# Altium footprint library PcbLib.PcbLib: 46 footprints (part 3 of 3)
Each footprint in its own frame and in the unit in brackets; x right, y up, seen from the top. Pads: shape width x height; smd on the part's side, far side on the other; paste and mask are expansions set on the pad; w line width, h text height; cw(c..) or ccw(c..) is an arc to the next point about the centre after c.
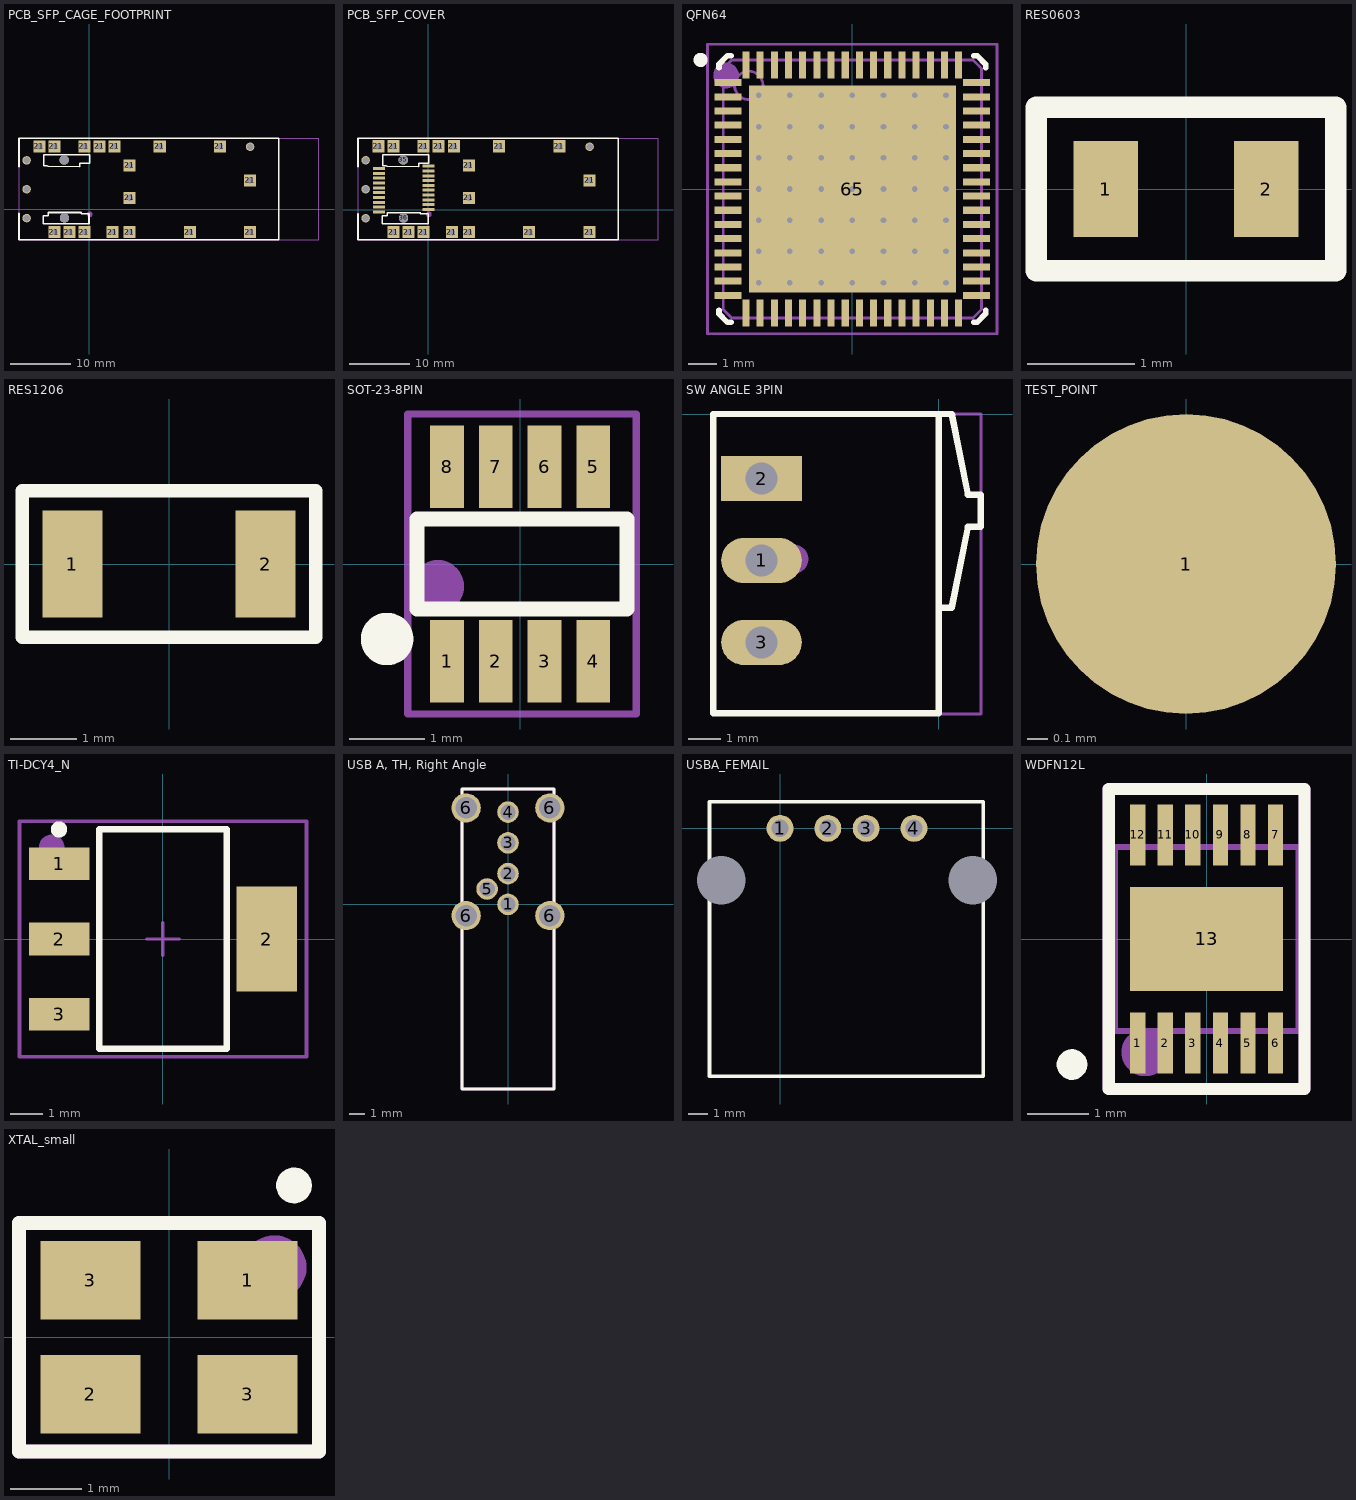
[diagram p2: the footprints below, top view; thin cyan lines are the x and y axes]

## PCB_SFP_CAGE_FOOTPRINT [mm]
pads (23):
  round 1.4 hole 1.067: 21(-10.387,-1.439) 21(-10.387,3.361) 21(-10.387,8.163) 21(26.75,10.425)
  rect 2x2 hole 1.05: 21(-8.279,10.499) 21(-5.764,-3.75) 21(-5.764,10.499) 21(-3.275,-3.75) 21(-0.786,-3.75) 21(-0.786,10.499) 21(1.729,10.499) 21(3.913,-3.75) 21(4.229,10.499) 21(6.733,-3.75) 21(6.733,1.94) 21(6.733,7.324) 21(11.736,10.499) 21(16.74,-3.75) 21(21.744,10.499) 21(26.748,-3.75) 21(26.748,4.835)
  round 1.55 hole 1.55 unplated: ""(-4.15,8.225) ""(-4.1,-1.4)
Top Overlay:
  lines w0.254: -11.657,-0.662 -11.657,-4.995 -5.764,-4.995 31.472,-4.995 31.472,11.811 -11.657,11.811 -11.657,7.085 ; -7.6,-2.35 -7.6,-1.05 -6.775,-1.05 -6.775,-0.5 -1.35,-0.5 -1.325,-0.7 -0.025,-0.7 -0.025,-2.35 -7.6,-2.35 ; -7.55,7.3 -7.55,9.1 0.1,9.1 0.1,7.7 -1.55,7.7 -1.55,7.125 -6.825,7.15 -7,7.3 -7.55,7.3
Mechanical 29:
  circle w0.5: c0.1,-0.8 r0.224
  lines w0.1: -11.6,-5 38.2,-5 38.2,11.8 -11.6,11.8 -11.6,-5
  text ".Designator" at -4.8,2.9 h2
3D body "SFP_cage.stp": height 10.67, standoff -2.71, extent -10.6,-4.618 38.2,11.218

## PCB_SFP_COVER [mm]
pads (43):
  rect 2x0.5 smd: 1(0,0) 2(0,0.8) 3(0,1.6) 4(0,2.4) 5(0,3.2) 6(0,4) 7(0,4.8) 8(0,5.6) 9(0,6.4) 10(0,7.2) 11(-8.2,6.8) 12(-8.2,6) 13(-8.2,5.2) 14(-8.2,4.4) 15(-8.2,3.6) 16(-8.2,2.8) 17(-8.2,2) 18(-8.2,1.2) 19(-8.2,0.4) 20(-8.2,-0.4)
  round 1.4 hole 1.067: 21(-10.387,-1.439) 21(-10.387,3.361) 21(-10.387,8.163) 21(26.75,10.425)
  rect 2x2 hole 1.05: 21(-8.279,10.499) 21(-5.764,-3.75) 21(-5.764,10.499) 21(-3.275,-3.75) 21(-0.786,-3.75) 21(-0.786,10.499) 21(1.729,10.499) 21(3.913,-3.75) 21(4.229,10.499) 21(6.733,-3.75) 21(6.733,1.94) 21(6.733,7.324) 21(11.736,10.499) 21(16.74,-3.75) 21(21.744,10.499) 21(26.748,-3.75) 21(26.748,4.835)
  round 1.55 hole 1.55: 35(-4.15,8.225) 36(-4.1,-1.4)
Top Overlay:
  lines w0.254: -11.657,-0.662 -11.657,-4.995 -5.764,-4.995 31.472,-4.995 31.472,11.811 -11.657,11.811 -11.657,7.085 ; -7.6,-2.35 -0.025,-2.35 -0.025,-0.7 -1.325,-0.7 -1.35,-0.5 -6.775,-0.5 -6.775,-1.05 -7.6,-1.05 -7.6,-2.35 ; -7.55,7.3 -7,7.3 -6.825,7.15 -1.55,7.125 -1.55,7.7 0.1,7.7 0.1,9.1 -7.55,9.1 -7.55,7.3
Mechanical 29:
  circle w0.5: c0.1,-0.8 r0.224
  lines w0.1: -11.6,-5 -11.6,11.8 38.1,11.8 38.1,-5 -11.6,-5
  text ".Designator" at -4.8,2.9 h2

## QFN64 [mm]
pads (65):
  rect 0.95x0.25 smd: 1(-4.375,3.75) 2(-4.375,3.25) 3(-4.375,2.75) 4(-4.375,2.25) 5(-4.375,1.75) 6(-4.375,1.25) 7(-4.375,0.75) 8(-4.375,0.25) 9(-4.375,-0.25) 10(-4.375,-0.75) 11(-4.375,-1.25) 12(-4.375,-1.75) 13(-4.375,-2.25) 14(-4.375,-2.75) 15(-4.375,-3.25) 16(-4.375,-3.75) 33(4.375,-3.75) 34(4.375,-3.25) 35(4.375,-2.75) 36(4.375,-2.25) 37(4.375,-1.75) 38(4.375,-1.25) 39(4.375,-0.75) 40(4.375,-0.25) 41(4.375,0.25) 42(4.375,0.75) 43(4.375,1.25) 44(4.375,1.75) 45(4.375,2.25) 46(4.375,2.75) 47(4.375,3.25) 48(4.375,3.75)
  rect 0.25x0.95 smd: 17(-3.75,-4.375) 18(-3.25,-4.375) 19(-2.75,-4.375) 20(-2.25,-4.375) 21(-1.75,-4.375) 22(-1.25,-4.375) 23(-0.75,-4.375) 24(-0.25,-4.375) 25(0.25,-4.375) 26(0.75,-4.375) 27(1.25,-4.375) 28(1.75,-4.375) 29(2.25,-4.375) 30(2.75,-4.375) 31(3.25,-4.375) 32(3.75,-4.375) 49(3.75,4.375) 50(3.25,4.375) 51(2.75,4.375) 52(2.25,4.375) 53(1.75,4.375) 54(1.25,4.375) 55(0.75,4.375) 56(0.25,4.375) 57(-0.25,4.375) 58(-0.75,4.375) 59(-1.25,4.375) 60(-1.75,4.375) 61(-2.25,4.375) 62(-2.75,4.375) 63(-3.25,4.375) 64(-3.75,4.375)
  rect 7.3x7.3 smd: 65(0,0)
via -3.3,3.3 diameter 0.5 hole 0.2
via -2.2,3.3 diameter 0.5 hole 0.2
via -1.1,3.3 diameter 0.5 hole 0.2
via 0,3.3 diameter 0.5 hole 0.2
via 1.1,3.3 diameter 0.5 hole 0.2
via 2.2,3.3 diameter 0.5 hole 0.2
via 3.3,3.3 diameter 0.5 hole 0.2
via -3.3,2.2 diameter 0.5 hole 0.2
via -2.2,2.2 diameter 0.5 hole 0.2
via -1.1,2.2 diameter 0.5 hole 0.2
via 0,2.2 diameter 0.5 hole 0.2
via 1.1,2.2 diameter 0.5 hole 0.2
via 2.2,2.2 diameter 0.5 hole 0.2
via 3.3,2.2 diameter 0.5 hole 0.2
via -3.3,1.1 diameter 0.5 hole 0.2
via -2.2,1.1 diameter 0.5 hole 0.2
via -1.1,1.1 diameter 0.5 hole 0.2
via 0,1.1 diameter 0.5 hole 0.2
via 1.1,1.1 diameter 0.5 hole 0.2
via 2.2,1.1 diameter 0.5 hole 0.2
via 3.3,1.1 diameter 0.5 hole 0.2
via -3.3,0 diameter 0.5 hole 0.2
via -2.2,0 diameter 0.5 hole 0.2
via -1.1,0 diameter 0.5 hole 0.2
via 0,0 diameter 0.5 hole 0.2
via 1.1,0 diameter 0.5 hole 0.2
via 2.2,0 diameter 0.5 hole 0.2
via 3.3,0 diameter 0.5 hole 0.2
via -3.3,-1.1 diameter 0.5 hole 0.2
via -2.2,-1.1 diameter 0.5 hole 0.2
via -1.1,-1.1 diameter 0.5 hole 0.2
via 0,-1.1 diameter 0.5 hole 0.2
via 1.1,-1.1 diameter 0.5 hole 0.2
via 2.2,-1.1 diameter 0.5 hole 0.2
via 3.3,-1.1 diameter 0.5 hole 0.2
via -3.3,-2.2 diameter 0.5 hole 0.2
via -2.2,-2.2 diameter 0.5 hole 0.2
via -1.1,-2.2 diameter 0.5 hole 0.2
via 0,-2.2 diameter 0.5 hole 0.2
via 1.1,-2.2 diameter 0.5 hole 0.2
via 2.2,-2.2 diameter 0.5 hole 0.2
via 3.3,-2.2 diameter 0.5 hole 0.2
via -3.3,-3.3 diameter 0.5 hole 0.2
via -2.2,-3.3 diameter 0.5 hole 0.2
via -1.1,-3.3 diameter 0.5 hole 0.2
via 0,-3.3 diameter 0.5 hole 0.2
via 1.1,-3.3 diameter 0.5 hole 0.2
via 2.2,-3.3 diameter 0.5 hole 0.2
via 3.3,-3.3 diameter 0.5 hole 0.2
Top Overlay:
  circle w0.25: c-5.35,4.55 r0.125
  lines w0.2: -4.7,-4.275 -4.7,-4.4 -4.4,-4.7 -4.275,-4.7 ; -4.7,4.275 -4.7,4.4 -4.4,4.7 -4.275,4.7 ; 4.275,-4.7 4.4,-4.7 4.7,-4.4 4.7,-4.275 ; 4.275,4.7 4.4,4.7 4.7,4.4 4.7,4.275
Mechanical 1:
  circle w0.1: c-3.65,3.65 r0.5
  lines w0.1: -4.55,-4.25 -4.25,-4.55 4.25,-4.55 4.55,-4.25 4.55,4.25 4.25,4.55 -4.25,4.55 -4.55,4.25 -4.55,-4.25
Mechanical 15:
  lines w0.05: -5.1,-5.1 -5.1,5.1 5.1,5.1 5.1,-5.1 -5.1,-5.1
  lines w0.1: -0.5,0 0.5,0 ; 0,-0.5 0,0.5
Mechanical 29:
  circle w0.5: c-4.45,4 r0.202
  lines w0.1: -5.1,-5.1 -5.1,5.1 5.1,5.1 5.1,-5.1 -5.1,-5.1
  text ".Designator" at -1.775,-0.75 h2
3D body "QFN564.step": height 1, standoff 0, extent -4.551,-4.551 4.551,4.551

## RES0603 [mm]
pads (2):
  rect 0.6x0.9 smd: 1(-0.75,0) 2(0.75,0)
Top Overlay:
  lines w0.2: -1.397,-0.762 -1.397,0.762 1.397,0.762 1.397,-0.762 -1.397,-0.762
Mechanical 29:
  lines w0.1: -1.4,-0.75 -1.4,0.75 1.4,0.75 1.4,-0.75 -1.4,-0.75
  text ".Designator" at -1.1,-0.4 h0.6
3D body "R0603.step": height 0.8, standoff 0, extent -0.8,-0.42 0.8,0.42

## RES1206 [mm]
pads (2):
  rect 0.9x1.6 smd: 1(-1.45,0) 2(1.45,0)
Top Overlay:
  lines w0.2: -2.2,-1.1 2.2,-1.1 2.2,1.1 -2.2,1.1 -2.2,-1.1
Mechanical 29:
  lines w0.1: -2.2,-1.1 2.2,-1.1 2.2,1.1 -2.2,1.1 -2.2,-1.1
  text ".Designator" at -1.3,-0.5 h1.1
3D body "1206 SMD Resistor.step": height 1, standoff 0, extent -1.6,-0.8 1.6,0.8

## SFP_CAGE_3D [mm]
3D body "SFP_cage.stp": height 10.67, standoff -2.71, extent -6.068,-3.989 42.732,11.847

## SOT-23-8PIN [mm]
pads (8):
  rect 0.45x1.1 smd mask+0.07: 1(-0.975,-1.3) 2(-0.325,-1.3) 3(0.325,-1.3) 4(0.975,-1.3) 5(0.975,1.3) 6(0.325,1.3) 7(-0.325,1.3) 8(-0.975,1.3)
Top Overlay:
  circle w0.5: c-1.775,-1 r0.1
  lines w0.2: -1.375,-0.6 1.425,-0.6 1.425,0.6 -1.375,0.6 -1.375,-0.6
Mechanical 29:
  circle w0.5: c-1.1,-0.3 r0.103
  lines w0.1: -1.5,-2 1.55,-2 1.55,2 -1.5,2 -1.5,-2
  text ".Designator" at -0.675,-0.475 h1.1
3D body "sot238.step": height 1.2, standoff 0, extent -1.47,-1.4 1.47,1.4

## SW ANGLE 3PIN [mm]
pads (3):
  oval 2.5x1.4 hole 1: 1(-5.5,-4.54) 3(-5.5,-7.08)
  rect 2.5x1.4 hole 1: 2(-5.5,-2)
Top Overlay:
  lines w0.2: 0,-6 0.4,-6 0.9,-3.5 1.3,-3.5 1.3,-2.5 0.9,-2.5 0.4,0 0,0 ; 0,0 -7,0 -7,-9.28 0,-9.28 0,0
Mechanical 29:
  circle w0.5: c-4.5,-4.5 r0.2
  lines w0.1: -7,-9.3 -7,0 1.3,0 1.3,-9.3 -7,-9.3
  text ".Designator" at -3.5,-5 h1.1
3D body: height 2.5, standoff 0, extent -4.9,-9.3 0,0
3D body: height 2.5, standoff 0, extent 0,-6 1.3,0

## TEST_POINT [mm]
pads (1):
  round 1.5 smd paste-1.5: 1(0,0)

## TI-DCY4_N [mm] "SOT223, 4-Leads, Body 6.5x3.5mm, Pitch 2.3mm, IPC Medium Density"
height 1.8
pads (4):
  rect 1.85x1 smd: 1(-3.175,2.3) 2(-3.175,0) 3(-3.175,-2.3)
  rect 1.85x3.2 smd: 2(3.175,0)
Top Overlay:
  circle w0.25: c-3.175,3.35 r0.125
  lines w0.2: -1.95,-3.35 1.95,-3.35 1.95,3.35 -1.95,3.35 -1.95,-3.35
Mechanical 15:
  lines w0.05: -4.35,-3.6 4.35,-3.6 4.35,3.6 -4.35,3.6 -4.35,-3.6
  lines w0.1: -0.5,0 0.5,0 ; 0,-0.5 0,0.5
Mechanical 29:
  circle w0.5: c-3.4,2.8 r0.141
  lines w0.1: -4.4,-3.6 4.4,-3.6 4.4,3.6 -4.4,3.6 -4.4,-3.6
  text ".Designator" at -2.4,-1 h2
3D body "SOT-223.step": height 1.69, standoff 0.01, extent -3.48,-3.25 3.48,3.25

## USB A, TH, Right Angle [mm]
pads (9):
  round 1.4 hole 1: 1(0,0) 2(0,2) 3(0,4) 4(0,6) 5(-1.36,1)
  round 1.9 hole 1.4: 6(-2.72,-0.73) 6(-2.72,6.27) 6(2.72,-0.73) 6(2.72,6.27)
Top Overlay:
  lines w0.2: -3,-12 -3,7.5 3,7.5 3,-12 -3,-12
Mechanical 29:
  lines w0.2: -3,-12 -3,7.5 3,7.5 3,-12 -3,-12
  text ".Designator" at 0.5,-10.5 h2
3D body "usb_a-usb_a-e.stp": height 14.45, standoff -3.96, extent -3.5,-12.1 3.698,7.1

## USBA_FEMAIL [mm]
pads (6):
  round 1.408 hole 0.9: 1(0,0) 2(2.5,0) 3(4.5,0) 4(7,0)
  round 0 hole 2.54 unplated: ""(-3.07,-2.71) ""(10.07,-2.71)
Top Overlay:
  lines w0.2: -3.68,-12.96 -3.68,1.39 10.62,1.39 10.62,-12.96 -3.68,-12.96
3D body "UJ2-AH-4-TH.stp": height 7.5, standoff -2.72, extent -3.68,-13.26 10.62,1.39

## WDFN12L [mm] "Small 12L WDFN3x3 Package"
pads (13):
  rect 0.25x1 smd: 1(-1.125,-1.7) 2(-0.675,-1.7) 3(-0.225,-1.7) 4(0.225,-1.7) 5(0.675,-1.7) 6(1.125,-1.7) 7(1.125,1.7) 8(0.675,1.7) 9(0.225,1.7) 10(-0.225,1.7) 11(-0.675,1.7) 12(-1.125,1.7)
  rect 2.5x1.7 smd: 13(0,0)
Top Overlay:
  circle w0.25: c-2.2,-2.05 r0.125
  lines w0.2: -1.6,-2.45 -1.6,2.45 1.6,2.45 1.6,-2.45 -1.6,-2.45
Mechanical 13:
  circle w0.1: c-0.65,-0.1 r0.5
  lines w0.1: -1.5,-1.5 1.5,-1.5 1.5,1.5 -1.5,1.5 -1.5,-1.5
Mechanical 15:
  lines w0.05: -1.65,-2.4 -1.65,2.4 1.65,2.4 1.65,-2.4 -1.65,-2.4
Mechanical 29:
  circle w0.5: c-1,-1.85 r0.141
  lines w0.2: -1.6,-2.45 -1.6,2.45 1.6,2.45 1.6,-2.45 -1.6,-2.45
  text ".Designator" at 0.9,-1.4 h1.78
3D body: height 0.8, standoff 0, extent -1.5,-1.5 1.5,1.5

## XTAL_small [mm] "3.2 X 2.5 mm SMD crystal"
height 0.6
pads (4):
  rect 1.4x1.1 smd: 1(1.1,0.8) 2(-1.1,-0.8) 3(-1.1,0.8) 3(1.1,-0.8)
Top Overlay:
  circle w0.25: c1.75,2.125 r0.125
  lines w0.2: -2.1,-1.6 -2.1,1.6 2.1,1.6 2.1,-1.6 -2.1,-1.6
Mechanical 29:
  circle w0.5: c1.475,0.975 r0.2
  lines w0.2: -2.1,-1.6 2.1,-1.6 2.1,-1.25 2.1,1.6 -2.1,1.6 -2.1,-1.6
  text ".Designator" at -1.575,-1.025 h2
3D body: height 0.7, standoff 0, extent -1.6,-1.25 1.6,1.25